# EAGLE library part SSW-117-02-S-S (library con-samtec)
THROUGH-HOLE .025" SQ POST SOCKET Source: Samtec SSW.pdf
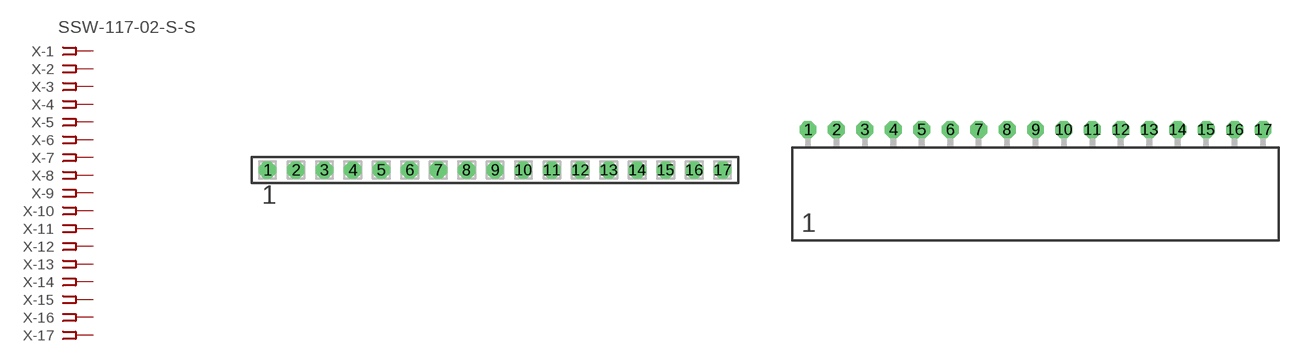
[diagram p87: symbol with the pads of SSW-117-02-S-S; footprints SSW-117-02-S-S, SSW-117-02-S-S-RA]

Designator prefix X; gates -1=FPINV -2=FPIN -3=FPIN -4=FPIN -5=FPIN -6=FPIN -7=FPIN -8=FPIN -9=FPIN -10=FPIN -11=FPIN -12=FPIN -13=FPIN -14=FPIN -15=FPIN -16=FPIN -17=FPIN

## SSW-117-02-S-S (MPN: SSW-117-02-S-S; OC_FARNELL: unknown; OC_NEWARK: 11P9592)  [SSW-117-02-S-S]
1  -1:1  pas
2  -2:1  pas
3  -3:1  pas
4  -4:1  pas
5  -5:1  pas
6  -6:1  pas
7  -7:1  pas
8  -8:1  pas
9  -9:1  pas
10  -10:1  pas
11  -11:1  pas
12  -12:1  pas
13  -13:1  pas
14  -14:1  pas
15  -15:1  pas
16  -16:1  pas
17  -17:1  pas

## SSW-117-02-S-S-RA (MPN: SSW-117-02-S-S-RA; OC_FARNELL: unknown; OC_NEWARK: 11P9593)  [SSW-117-02-S-S-RA]
Pads as for SSW-117-02-S-S

## Footprint SSW-117-02-S-S (pad centres in mm)
THROUGH-HOLE .025" SQ POST SOCKET Source: Samtec SSW.pdf
drill 1 pad 1.5 octagon: 1 -20.32,0; 2 -17.78,0; 3 -15.24,0; 4 -12.7,0; 5 -10.16,0; 6 -7.62,0; 7 -5.08,0; 8 -2.54,0; 9 0,0; 10 2.54,0; 11 5.08,0; 12 7.62,0; 13 10.16,0; 14 12.7,0; 15 15.24,0; 16 17.78,0; 17 20.32,0

## Footprint SSW-117-02-S-S-RA (pad centres in mm)
THROUGH-HOLE .025" SQ POST SOCKET Source: Samtec SSW.pdf
drill 1 pad 1.5 octagon: 1 -20.32,1.524; 2 -17.78,1.524; 3 -15.24,1.524; 4 -12.7,1.524; 5 -10.16,1.524; 6 -7.62,1.524; 7 -5.08,1.524; 8 -2.54,1.524; 9 0,1.524; 10 2.54,1.524; 11 5.08,1.524; 12 7.62,1.524; 13 10.16,1.524; 14 12.7,1.524; 15 15.24,1.524; 16 17.78,1.524; 17 20.32,1.524